# Altium footprint library Burr-Brown Footprints.PcbLib: 201 footprints (part 12 of 13)
Each footprint in its own frame and in the unit in brackets; x right, y up, seen from the top. Pads: shape width x height; smd on the part's side, far side on the other; paste and mask are expansions set on the pad; w line width, h text height; cw(c..) or ccw(c..) is an arc to the next point about the centre after c.
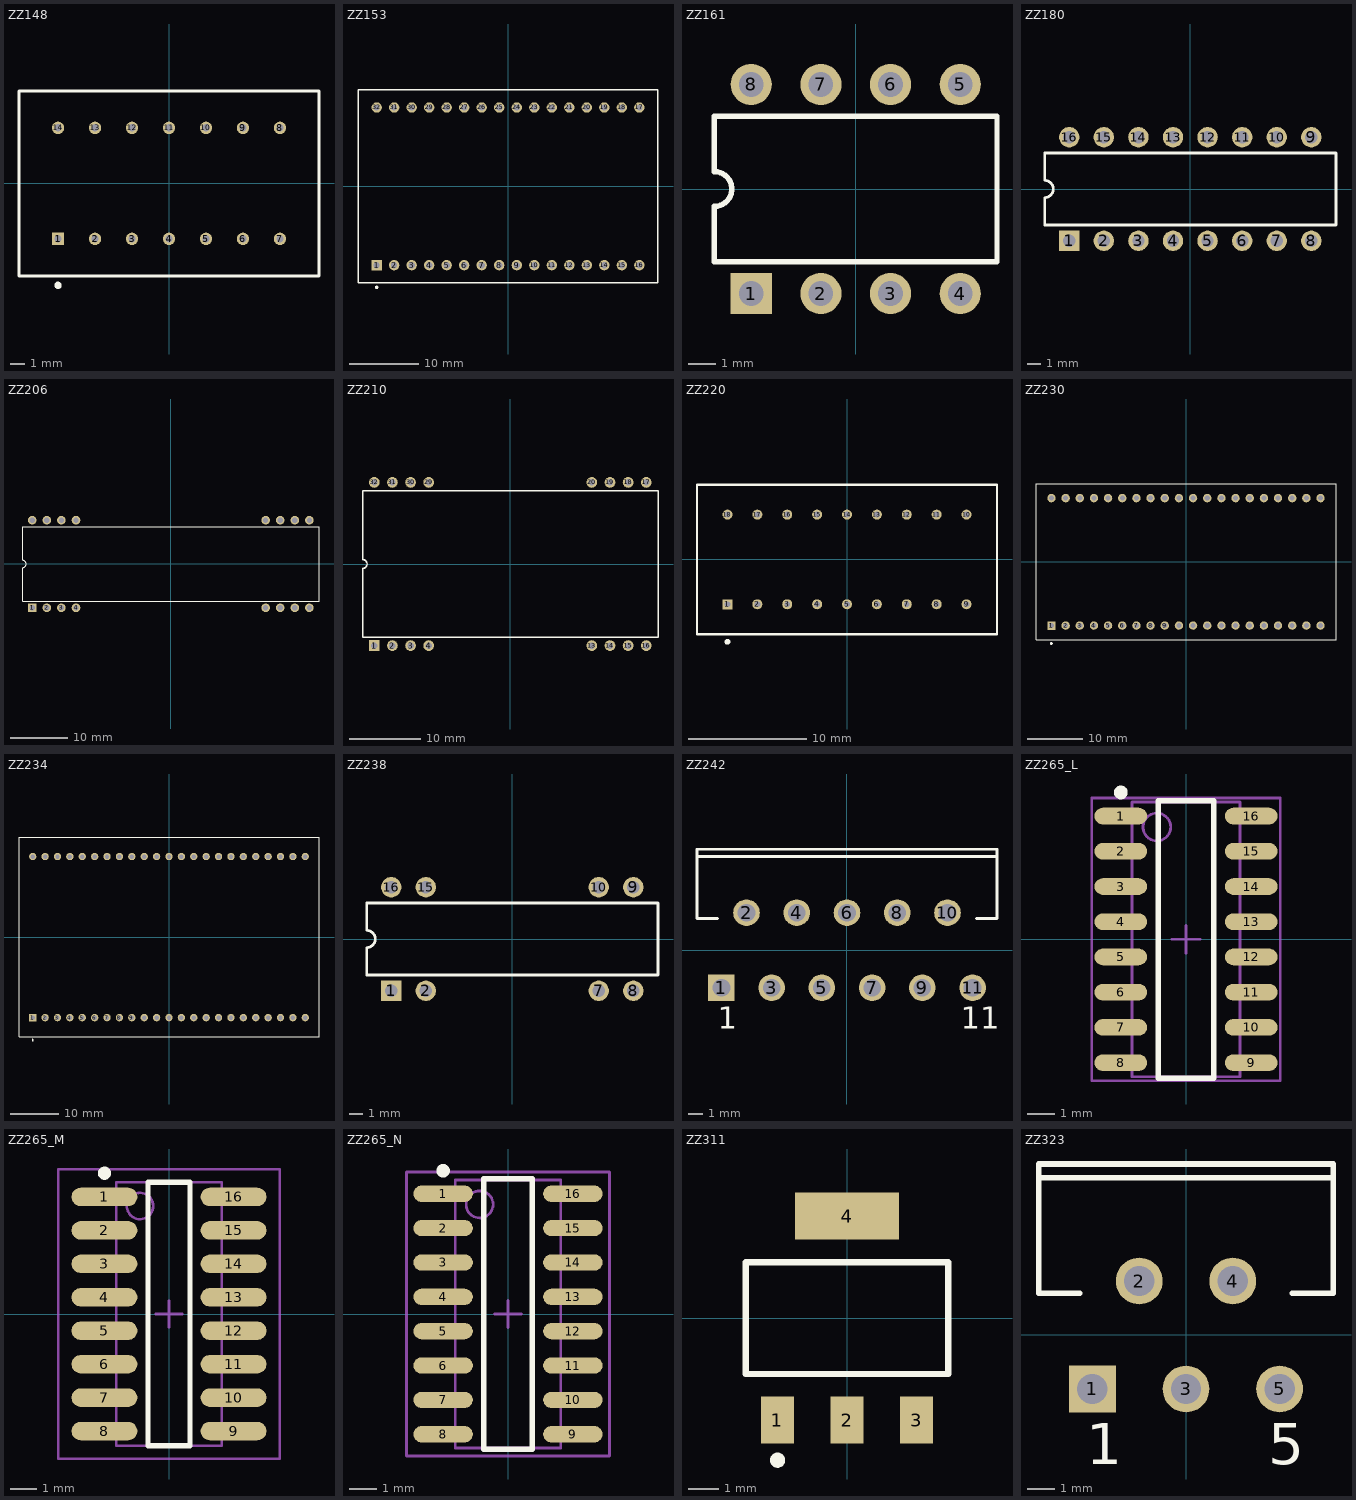
[diagram p11: the footprints below, top view; thin cyan lines are the x and y axes]

## ZZ148 [mm] "DIP; 14 Rectangular Pins; Row Space 7.62 mm; Pitch 2.54 mm"
height 5.46
pads (14):
  rect 0.85x0.85 hole 0.5: 1(-7.62,-3.81)
  round 0.85 hole 0.5: 2(-5.08,-3.81) 3(-2.54,-3.81) 4(0,-3.81) 5(2.54,-3.81) 6(5.08,-3.81) 7(7.62,-3.81) 8(7.62,3.81) 9(5.08,3.81) 10(2.54,3.81) 11(0,3.81) 12(-2.54,3.81) 13(-5.08,3.81) 14(-7.62,3.81)
Top Overlay:
  circle w0.25: c-7.62,-7 r0.125
  lines w0.2: -10.3,-6.35 -10.3,-0.635 -10.3,6.35 10.3,6.35 10.3,-6.35 -10.3,-6.35

## ZZ153 [mm] "DIP; 32 Round Pins; Row Space 22.86 mm; Pitch 2.54 mm"
height 5.33
pads (32):
  rect 1.5x1.5 hole 0.9: 1(-19.05,-11.43)
  round 1.5 hole 0.9: 2(-16.51,-11.43) 3(-13.97,-11.43) 4(-11.43,-11.43) 5(-8.89,-11.43) 6(-6.35,-11.43) 7(-3.81,-11.43) 8(-1.27,-11.43) 9(1.27,-11.43) 10(3.81,-11.43) 11(6.35,-11.43) 12(8.89,-11.43) 13(11.43,-11.43) 14(13.97,-11.43) 15(16.51,-11.43) 16(19.05,-11.43) 17(19.05,11.43) 18(16.51,11.43) 19(13.97,11.43) 20(11.43,11.43) 21(8.89,11.43) 22(6.35,11.43) 23(3.81,11.43) 24(1.27,11.43) 25(-1.27,11.43) 26(-3.81,11.43) 27(-6.35,11.43) 28(-8.89,11.43) 29(-11.43,11.43) 30(-13.97,11.43) 31(-16.51,11.43) 32(-19.05,11.43)
Top Overlay:
  circle w0.25: c-19.05,-14.65 r0.125
  lines w0.2: -21.75,-14 -21.75,-0.635 -21.75,14 21.75,14 21.75,-14 -21.75,-14

## ZZ161 [mm] "CerDIP; 8 Leads; Row Spacing 7.62 mm; Pitch 2.54 mm"
height 5.84
pads (8):
  rect 1.5x1.5 hole 0.9: 1(-3.81,-3.81)
  round 1.5 hole 0.9: 2(-1.27,-3.81) 3(1.27,-3.81) 4(3.81,-3.81) 5(3.81,3.81) 6(1.27,3.81) 7(-1.27,3.81) 8(-3.81,3.81)
Top Overlay:
  lines w0.2: -5.15,-2.65 -5.15,-0.635 ccw(c-5.15,0) -5.15,0.635 -5.15,2.65 5.15,2.65 5.15,-2.65 -5.15,-2.65

## ZZ180 [mm] "DIP, Plastic; 16 Leads; Row Spacing 7.62 mm; Pitch 2.54 mm"
height 5.33
pads (16):
  rect 1.5x1.5 hole 0.9: 1(-8.89,-3.81)
  round 1.5 hole 0.9: 2(-6.35,-3.81) 3(-3.81,-3.81) 4(-1.27,-3.81) 5(1.27,-3.81) 6(3.81,-3.81) 7(6.35,-3.81) 8(8.89,-3.81) 9(8.89,3.81) 10(6.35,3.81) 11(3.81,3.81) 12(1.27,3.81) 13(-1.27,3.81) 14(-3.81,3.81) 15(-6.35,3.81) 16(-8.89,3.81)
Top Overlay:
  lines w0.2: -10.7,-2.65 -10.7,-0.635 ccw(c-10.7,0) -10.7,0.635 -10.7,2.65 10.7,2.65 10.7,-2.65 -10.7,-2.65

## ZZ206 [mm] "DIP; 40 Leads (24 Absent); Row Spacing 15.24 mm; Pitch 2.54 mm"
height 4.83
pads (16):
  rect 1.5x1.5 hole 0.9: 1(-24.13,-7.62)
  round 1.5 hole 0.9: 2(-21.59,-7.62) 3(-19.05,-7.62) 4(-16.51,-7.62) 17(16.51,-7.62) 18(19.05,-7.62) 19(21.59,-7.62) 20(24.13,-7.62) 21(24.13,7.62) 22(21.59,7.62) 23(19.05,7.62) 24(16.51,7.62) 37(-16.51,7.62) 38(-19.05,7.62) 39(-21.59,7.62) 40(-24.13,7.62)
Top Overlay:
  lines w0.2: -25.8,-6.45 -25.8,-0.635 ccw(c-25.8,0) -25.8,0.635 -25.8,6.45 25.8,6.45 25.8,-6.45 -25.8,-6.45

## ZZ210 [mm] "DIP; 32 Leads (16 Absent); Row Spacing 22.86 mm; Pitch 2.54 mm"
height 9.4
pads (16):
  rect 1.5x1.5 hole 0.9: 1(-19.05,-11.43)
  round 1.5 hole 0.9: 2(-16.51,-11.43) 3(-13.97,-11.43) 4(-11.43,-11.43) 13(11.43,-11.43) 14(13.97,-11.43) 15(16.51,-11.43) 16(19.05,-11.43) 17(19.05,11.43) 18(16.51,11.43) 19(13.97,11.43) 20(11.43,11.43) 29(-11.43,11.43) 30(-13.97,11.43) 31(-16.51,11.43) 32(-19.05,11.43)
Top Overlay:
  lines w0.2: -20.7,-10.25 20.7,-10.25 20.7,10.25 -20.7,10.25 -20.7,0.635 cw(c-20.7,0) -20.7,-0.635 -20.7,-10.25

## ZZ220 [mm] "DIP; 18 Rectangular Pins; Row Space 7.62 mm; Pitch 2.54 mm"
height 5
pads (18):
  rect 0.85x0.85 hole 0.5: 1(-10.16,-3.81)
  round 0.85 hole 0.5: 2(-7.62,-3.81) 3(-5.08,-3.81) 4(-2.54,-3.81) 5(0,-3.81) 6(2.54,-3.81) 7(5.08,-3.81) 8(7.62,-3.81) 9(10.16,-3.81) 10(10.16,3.81) 11(7.62,3.81) 12(5.08,3.81) 13(2.54,3.81) 14(0,3.81) 15(-2.54,3.81) 16(-5.08,3.81) 17(-7.62,3.81) 18(-10.16,3.81)
Top Overlay:
  circle w0.25: c-10.16,-7 r0.125
  lines w0.2: -12.75,-6.35 -12.75,-0.635 -12.75,6.35 12.75,6.35 12.75,-6.35 -12.75,-6.35

## ZZ230 [mm] "DIP; 40 Round Pins; Row Space 22.86 mm; Pitch 2.54 mm"
height 4.45
pads (40):
  rect 1.5x1.5 hole 0.9: 1(-24.13,-11.43)
  round 1.5 hole 0.9: 2(-21.59,-11.43) 3(-19.05,-11.43) 4(-16.51,-11.43) 5(-13.97,-11.43) 6(-11.43,-11.43) 7(-8.89,-11.43) 8(-6.35,-11.43) 9(-3.81,-11.43) 10(-1.27,-11.43) 11(1.27,-11.43) 12(3.81,-11.43) 13(6.35,-11.43) 14(8.89,-11.43) 15(11.43,-11.43) 16(13.97,-11.43) 17(16.51,-11.43) 18(19.05,-11.43) 19(21.59,-11.43) 20(24.13,-11.43) 21(24.13,11.43) 22(21.59,11.43) 23(19.05,11.43) 24(16.51,11.43) 25(13.97,11.43) 26(11.43,11.43) 27(8.89,11.43) 28(6.35,11.43) 29(3.81,11.43) 30(1.27,11.43) 31(-1.27,11.43) 32(-3.81,11.43) 33(-6.35,11.43) 34(-8.89,11.43) 35(-11.43,11.43) 36(-13.97,11.43) 37(-16.51,11.43) 38(-19.05,11.43) 39(-21.59,11.43) 40(-24.13,11.43)
Top Overlay:
  circle w0.25: c-24.13,-14.65 r0.125
  lines w0.2: -26.9,-14 -26.9,-0.635 -26.9,14 26.9,14 26.9,-14 -26.9,-14

## ZZ234 [mm] "DIP; 46 Round Pins; Row Space 33.02 mm; Pitch 2.54 mm"
height 6.38
pads (46):
  rect 1.5x1.5 hole 0.9: 1(-27.94,-16.51)
  round 1.5 hole 0.9: 2(-25.4,-16.51) 3(-22.86,-16.51) 4(-20.32,-16.51) 5(-17.78,-16.51) 6(-15.24,-16.51) 7(-12.7,-16.51) 8(-10.16,-16.51) 9(-7.62,-16.51) 10(-5.08,-16.51) 11(-2.54,-16.51) 12(0,-16.51) 13(2.54,-16.51) 14(5.08,-16.51) 15(7.62,-16.51) 16(10.16,-16.51) 17(12.7,-16.51) 18(15.24,-16.51) 19(17.78,-16.51) 20(20.32,-16.51) 21(22.86,-16.51) 22(25.4,-16.51) 23(27.94,-16.51) 24(27.94,16.51) 25(25.4,16.51) 26(22.86,16.51) 27(20.32,16.51) 28(17.78,16.51) 29(15.24,16.51) 30(12.7,16.51) 31(10.16,16.51) 32(7.62,16.51) 33(5.08,16.51) 34(2.54,16.51) 35(0,16.51) 36(-2.54,16.51) 37(-5.08,16.51) 38(-7.62,16.51) 39(-10.16,16.51) 40(-12.7,16.51) 41(-15.24,16.51) 42(-17.78,16.51) 43(-20.32,16.51) 44(-22.86,16.51) 45(-25.4,16.51) 46(-27.94,16.51)
Top Overlay:
  circle w0.25: c-27.94,-21.1 r0.125
  lines w0.2: -30.75,-20.45 -30.75,-0.635 -30.75,20.45 30.75,20.45 30.75,-20.45 -30.75,-20.45

## ZZ238 [mm] "DIP; 16 Leads (8 Absent); Row Spacing 7.62 mm; Pitch 2.54 mm"
height 5.33
pads (8):
  rect 1.5x1.5 hole 0.9: 1(-8.89,-3.81)
  round 1.5 hole 0.9: 2(-6.35,-3.81) 7(6.35,-3.81) 8(8.89,-3.81) 9(8.89,3.81) 10(6.35,3.81) 15(-6.35,3.81) 16(-8.89,3.81)
Top Overlay:
  lines w0.2: -10.7,-2.65 -10.7,-0.635 ccw(c-10.7,0) -10.7,0.635 -10.7,2.65 10.7,2.65 10.7,-2.65 -10.7,-2.65

## ZZ242 [mm] "TO, Thru-Hole, Vertical, Heatsink Mounted; 11 Bent Staggered Leads; Pitch 1.7 mm"
height 20.8
pads (11):
  rect 1.8x1.8 hole 1.2: 1(-8.5,-2.54)
  round 1.8 hole 1.2: 2(-6.8,2.54) 3(-5.1,-2.54) 4(-3.4,2.54) 5(-1.7,-2.54) 6(0,2.54) 7(1.7,-2.54) 8(3.4,2.54) 9(5.1,-2.54) 10(6.8,2.54) 11(8.5,-2.54)
Top Overlay:
  lines w0.2: -10.15,6.33 10.15,6.33 ; -8.754,2.13 -10.15,2.13 -10.15,6.83 10.15,6.83 10.15,2.13 8.774,2.13
  text "11" at 7.71,-5.315 h1.5
  text "1" at -8.74,-5.315 h1.5

## ZZ265_L [mm] "16-Pin Small Outline Integrated Circuit 1.27 mm Pitch, IPC High Density"
height 1.75
pads (16):
  oval 1.9x0.6 smd: 1(-2.35,4.445) 2(-2.35,3.175) 3(-2.35,1.905) 4(-2.35,0.635) 5(-2.35,-0.635) 6(-2.35,-1.905) 7(-2.35,-3.175) 8(-2.35,-4.445) 9(2.35,-4.445) 10(2.35,-3.175) 11(2.35,-1.905) 12(2.35,-0.635) 13(2.35,0.635) 14(2.35,1.905) 15(2.35,3.175) 16(2.35,4.445)
Top Overlay:
  circle w0.25: c-2.35,5.295 r0.125
  lines w0.2: -1,-5 1,-5 1,5 -1,5 -1,-5
Mechanical 13:
  circle w0.1: c-1.05,4.05 r0.5
  lines w0.1: -1.95,-4.95 1.95,-4.95 1.95,4.95 -1.95,4.95 -1.95,-4.95
Mechanical 15:
  lines w0.1: -0.5,0 0.5,0 ; 0,-0.5 0,0.5 ; -3.4,-5.1 3.4,-5.1 3.4,5.1 -3.4,5.1 -3.4,-5.1
3D body: height 1.75, standoff 0, extent -1.95,-4.95 1.95,4.95

## ZZ265_M [mm] "16-Pin Small Outline Integrated Circuit 1.27 mm Pitch, IPC Low Density"
height 1.75
pads (16):
  oval 2.5x0.7 smd: 1(-2.45,4.445) 2(-2.45,3.175) 3(-2.45,1.905) 4(-2.45,0.635) 5(-2.45,-0.635) 6(-2.45,-1.905) 7(-2.45,-3.175) 8(-2.45,-4.445) 9(2.45,-4.445) 10(2.45,-3.175) 11(2.45,-1.905) 12(2.45,-0.635) 13(2.45,0.635) 14(2.45,1.905) 15(2.45,3.175) 16(2.45,4.445)
Top Overlay:
  circle w0.25: c-2.45,5.345 r0.125
  lines w0.2: -0.8,-5 0.8,-5 0.8,5 -0.8,5 -0.8,-5
Mechanical 13:
  circle w0.1: c-1.1,4.1 r0.5
  lines w0.1: -2,-5 2,-5 2,5 -2,5 -2,-5
Mechanical 15:
  lines w0.1: -0.5,0 0.5,0 ; 0,-0.5 0,0.5 ; -4.2,-5.5 4.2,-5.5 4.2,5.5 -4.2,5.5 -4.2,-5.5
3D body: height 1.75, standoff 0, extent -2,-5 2,5

## ZZ265_N [mm] "16-Pin Small Outline Integrated Circuit 1.27 mm Pitch, IPC Medium Density"
height 1.75
pads (16):
  oval 2.2x0.6 smd: 1(-2.4,4.445) 2(-2.4,3.175) 3(-2.4,1.905) 4(-2.4,0.635) 5(-2.4,-0.635) 6(-2.4,-1.905) 7(-2.4,-3.175) 8(-2.4,-4.445) 9(2.4,-4.445) 10(2.4,-3.175) 11(2.4,-1.905) 12(2.4,-0.635) 13(2.4,0.635) 14(2.4,1.905) 15(2.4,3.175) 16(2.4,4.445)
Top Overlay:
  circle w0.25: c-2.4,5.295 r0.125
  lines w0.2: -0.9,-5 -0.9,5 0.9,5 0.9,-5 -0.9,-5
Mechanical 13:
  circle w0.1: c-1.05,4.05 r0.5
  lines w0.1: -1.95,-4.95 -1.95,4.95 1.95,4.95 1.95,-4.95 -1.95,-4.95
Mechanical 15:
  lines w0.1: -0.5,0 0.5,0 ; 0,-0.5 0,0.5 ; -3.75,-5.25 -3.75,5.25 3.75,5.25 3.75,-5.25 -3.75,-5.25
3D body: height 1.75, standoff 0, extent -1.95,-4.95 1.95,4.95

## ZZ311 [mm] "SOT-223/SC-73; 4 Leads; Body 6.7 x 7.3 mm, inc. leads (LxW max)"
height 1.8
pads (4):
  rect 1.1x1.55 smd: 1(-2.3,-3.375) 2(0,-3.375) 3(2.3,-3.375)
  rect 3.45x1.55 smd: 4(0,3.375)
Top Overlay:
  circle w0.25: c-2.3,-4.7 r0.125
  lines w0.2: -3.35,-1.85 -3.35,1.85 3.35,1.85 3.35,-1.85 -3.35,-1.85

## ZZ323 [mm] "TO, Thru-Hole, Vertical, Heatsink Mounted; 5 Bent Staggered Leads; Pitch 1.7 mm"
height 18.8
pads (5):
  rect 1.7x1.7 hole 1.1: 1(-3.4,-1.96)
  round 1.7 hole 1.1: 2(-1.7,1.96) 3(0,-1.96) 4(1.7,1.96) 5(3.4,-1.96)
Top Overlay:
  lines w0.2: -5.35,5.71 5.35,5.71 ; -3.854,1.51 -5.35,1.51 -5.35,6.21 5.35,6.21 5.35,1.51 3.854,1.51
  text "5" at 2.98,-4.685 h1.5
  text "1" at -3.62,-4.685 h1.5